# Altium schematic symbol library Miscellaneous_Lib1.SchLib: 7 symbols
Pins are listed as number, name and electrical type; pins without a type are passive.

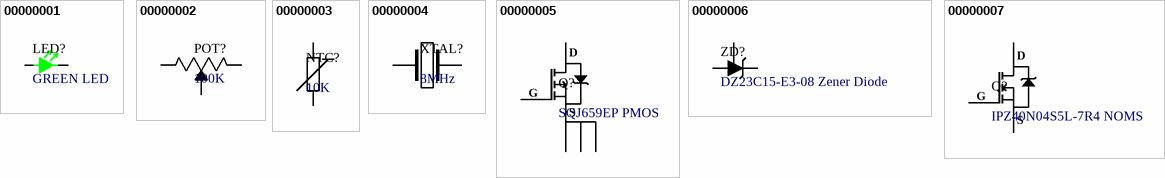
[diagram p0: symbols 00000001 to 00000007]

## 00000001
designator LED?, comment GREEN LED
LED GREEN DIFFUSED 0603 SMD; Supplier 1: Avnet; Supplier Part Number 1: Q65111A3964; ComponentLink1Description: Digikey; ComponentLink1URL: https://www.digikey.com/en/products/detail/ams-osram-usa-inc/LG-Q396-PS-35/5249855
footprint DIOC1608X04N (Chip Diode, 2-Leads, Body 1.60x0.80mm, IPC Medium Density)
pins: 1, 2

## 00000002
designator POT?, comment 100K
TRIMMER 100K OHM 0.1W J LEAD TOP; ComponentLink1Description: DigiKey; ComponentLink1URL: https://www.digikey.com/en/products/detail/bourns-inc/TC33X-2-104E/612859; Value: 100K; Supplier 1: Arrow Electronics; Supplier Part Number 1: TC33X-2-104E
footprint TC33X-2_POT (100K_potentiometer_SMD)
pins: 1, 2, 3

## 00000003
designator NTC?, comment 10K
THERMISTOR NTC 10KOHM 3380K 0603; value: 10K; Supplier 1: Arrow Electronics; Supplier Part Number 1: NCP18XH103F03RB; ComponentLink1Description: Digikey; ComponentLink1URL: https://www.digikey.com/en/products/detail/murata-electronics/NCU18XH103F6SRB/7243451
footprint SMD_0603
pins: 1, 2

## 00000004
designator XTAL?, comment 8MHz
CRYSTAL 8.0000MHZ 8PF SMD; frequency: 8MHz; DigiKey Part Number: 644-STDCSU1-8MTR-ND; ComponentLink1Description: DigiKey; ComponentLink1URL: https://www.digikey.com/en/products/detail/ndk-america-inc/STDCSU1-8M/1788472
footprint XTAL-SMD
pins: 1, 2

## 00000005
designator Q?, comment SQJ659EP PMOS
P-Channel 60 V 52A (Tc) 83W (Tc) Surface Mount PowerPAK® SO-8; DigiKey Part Number: SQJ459EP-T1_GE3CT-ND; Mouser Part Number: 78-SQJ459EP-T2_BE3; ComponentLink1Description: DigiKey; ComponentLink1URL: https://www.digikey.com/en/products/detail/vishay-siliconix/SQJ459EP-T1-GE3/6708881; ComponentLink2Description: Mouser; ComponentLink2URL: https://eu.mouser.com/ProductDetail/Vishay-Siliconix/SQJ459EP-T2_BE3?qs=CiayqK2gdcKpg8h0vLRPjA%3D%3D
footprint PowerPAK SO-8L SINGLE
pins: D, G, S S1, S S2, S S3

## 00000006
designator ZD?, comment DZ23C15-E3-08 Zener Diode
Zener Diode Array 1 Pair Common Cathode 15 V 300 mW ±5% SOT-23-3; DigiKey Part Number: 112-DZ23C15-E3-08CT-ND; ComponentLink1Description: DigiKey; ComponentLink1URL: https://www.digikey.com/en/products/detail/vishay-general-semiconductor-diodes-division/DZ23C15-E3-08/4831460
footprint SOT95P245X96-3N (SOT23, 3-Leads, Body 2.90x2.45mm, Pitch 0.95mm, IPC Medium Density)
pins: 1 Anode, 2 Anode, 3 Cathode

## 00000007
designator Q?, comment IPZ40N04S5L-7R4 NOMS
N-Channel 40 V 40A (Tc) 34W (Tc) Surface Mount PG-TSDSON-8; DigiKey Part Number: IPZ40N04S5L7R4ATMA1CT-ND; Mouser Part Number: 726-IPZ40N04S5L7R4AT; ComponentLink1Description: DigiKey; ComponentLink1URL: https://www.digikey.com/en/products/detail/infineon-technologies/IPZ40N04S5L7R4ATMA1/5960382; ComponentLink2Description: Mouser; ComponentLink2URL: https://eu.mouser.com/ProductDetail/Infineon-Technologies/IPZ40N04S5L7R4ATMA1?qs=RJIhqtkBntMJfptUOROQRQ%3D%3D; ComponentLink3Description: Footprint Drawing; ComponentLink3URL: https://www.infineon.com/cms/en/product/packages/PG-TSDSON/PG-TSDSON-8-32/#!downloads
footprint PG-TSDSON-8-32
pins: D Drain, G Gate, S Source